# EAGLE library part REG710XX (library test)
TI REG710xx Charge Pump with Regulated Output TI REG710xx (60mA) 5.5V - REG71055 5.0V - REG71050 3.3V - REG710NA-3.3 3.0V - REG710NA-3 2.7V - REG710NA-2.7 2.5V - REG710NA-2.5 Diodes AP3602 (100mA) 5.0V - AP3602A 4.5V - AP3602B OnSemi CAT3200 (100mA) 5.0V - CAT3200TDI
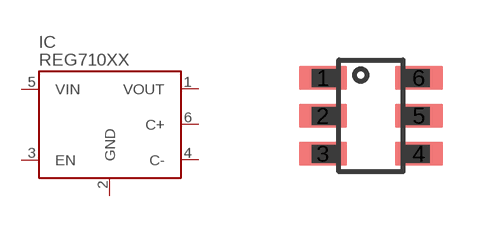
[diagram p3: symbol with the pads of SOT23-6; footprint SOT23-6]

Designator prefix IC

## REG710XX-5.0  [SOT23-6]
1  VOUT  pwr
2  GND  pwr
3  EN  pas
4  C-  pas
5  VIN  pwr
6  C+  pas

## REG710XX-3.3  [SOT23-6]
Pads as for SOT23-6

## Footprint SOT23-6 (pad centres in mm)
smd 1.2 x 0.6: 1 -1.2,0.95; 2 -1.2,0; 3 -1.2,-0.95; 4 1.2,-0.95; 5 1.2,0; 6 1.2,0.95